# EAGLE library part SN74HC148 (library LockBox)
8-Line to 3-Line Priority Encoder Features priority decoding of the inputs to ensure that only the highest-order dataline is encoded Source: http://www.ti.com/lit/ds/symlink/sn74hc148.pdf
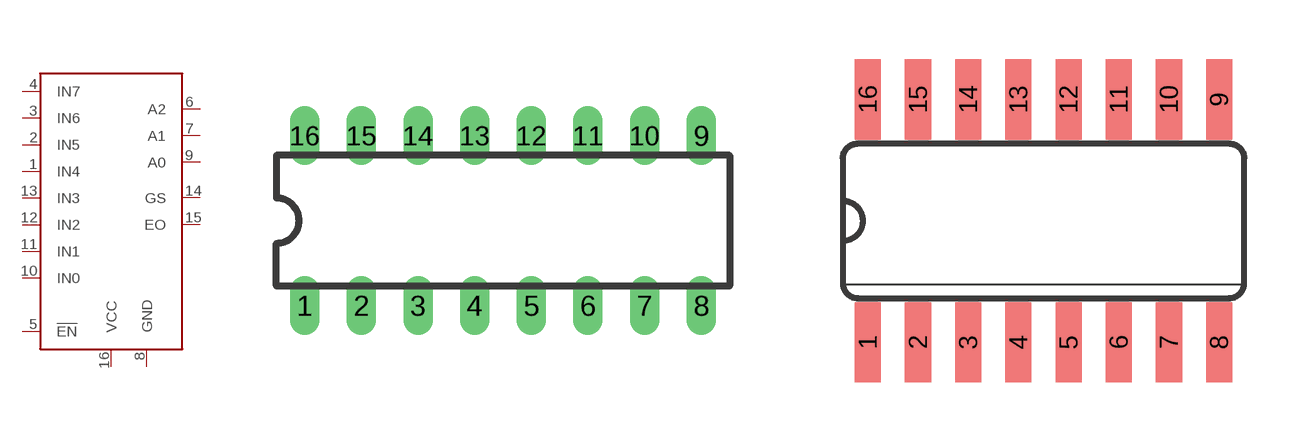
[diagram p2: symbol with the pads of DIL16; footprints DIL16, SO16]

Designator prefix -

## SN74HC148N  [DIL16]
1  IN4  in
2  IN5  in
3  IN6  in
4  IN7  in
5  !EN
6  A2  out
7  A1  out
8  GND  pwr
9  A0  out
10  IN0  in
11  IN1  in
12  IN2  in
13  IN3  in
14  GS  out
15  EO  out
16  VCC  pwr

## SN74HC148DR  [SO16]
Pads as for DIL16

## Footprint DIL16 (pad centres in mm)
Dual In Line Package
drill 0.813 long: 1 -8.89,-3.81; 2 -6.35,-3.81; 3 -3.81,-3.81; 4 -1.27,-3.81; 5 1.27,-3.81; 6 3.81,-3.81; 7 6.35,-3.81; 8 8.89,-3.81; 9 8.89,3.81; 10 6.35,3.81; 11 3.81,3.81; 12 1.27,3.81; 13 -1.27,3.81; 14 -3.81,3.81; 15 -6.35,3.81; 16 -8.89,3.81

## Footprint SO16 (pad centres in mm)
Small Outline Package
smd 0.66 x 2.032: 1 -4.445,-3.073; 2 -3.175,-3.073; 3 -1.905,-3.073; 4 -0.635,-3.073; 5 0.635,-3.073; 6 1.905,-3.073; 7 3.175,-3.073; 8 4.445,-3.073; 9 4.445,3.073; 10 3.175,3.073; 11 1.905,3.073; 12 0.635,3.073; 13 -0.635,3.073; 14 -1.905,3.073; 15 -3.175,3.073; 16 -4.445,3.073